# Altium schematic symbol library Circuit Breaker.Schlib: 1 symbol
Pins are listed as number, name and electrical type; pins without a type are passive.

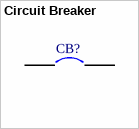
[diagram p0: symbol Circuit Breaker]

## Circuit Breaker
designator CB?
Circuit Breaker
pins: 1, 2